# EAGLE library part MICRO_SD_DM3AT (library Schuyler)
Micro SD Card holder. Push/Push.
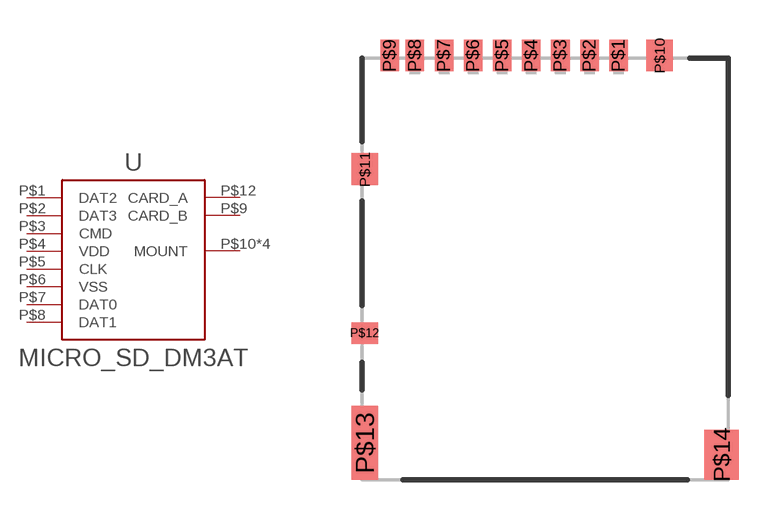
[diagram p26: symbol with the pads of MICROSD_DM3AT; footprint MICROSD_DM3AT]

Designator prefix -

## MICRO_SD_DM3AT (MANPARTNUMBER: DM3AT-SF-PEJM5; MANUFACTURER: Hirose Electric Co Ltd; PARTNUMBER: HR1964CT-ND; SUPPLIER: DIGIKEY)  [MICROSD_DM3AT]
P$1  DAT2
P$2  DAT3
P$3  CMD
P$4  VDD
P$5  CLK
P$6  VSS
P$7  DAT0
P$8  DAT1
P$9  CARD_B
P$10  MOUNT
P$11  MOUNT
P$12  CARD_A
P$13  MOUNT
P$14  MOUNT

## Footprint MICROSD_DM3AT (pad centres in mm)
Land pattern from http://www.hirose.co.jp/cataloge_hp/2d/EDC3-325165-00.pdf
smd 0.7 x 1.2: P$1 2.775,8.075; P$2 1.675,8.075; P$3 0.575,8.075; P$4 -0.525,8.075; P$5 -1.625,8.075; P$6 -2.725,8.075; P$7 -3.825,8.075; P$8 -4.925,8.075; P$9 -5.875,8.075
smd 1 x 1.2: P$10 4.325,8.075; P$11 -6.825,3.775
smd 1 x 0.8: P$12 -6.825,-2.425
smd 1 x 2.8: P$13 -6.825,-6.575
smd 1.3 x 1.9: P$14 6.675,-7.025